# Altium schematic symbol library ULN.SchLib: 2 symbols
Pins are listed as number, name and electrical type; pins without a type are passive.

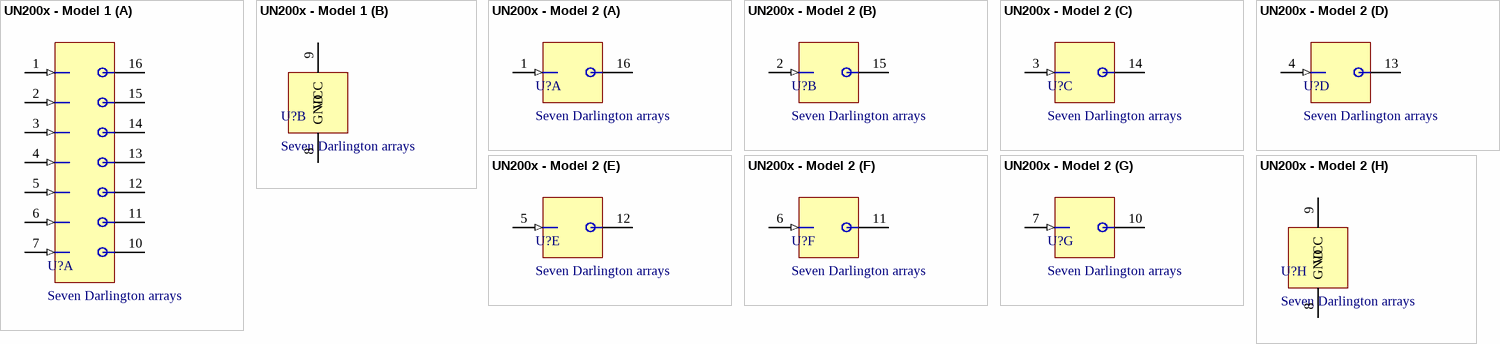
[diagram p0: symbols UN200x - Model 1 to UN200x - Model 2]

## UN200x - Model 1
designator U?, comment Seven Darlington arrays
footprint PDIP16
part A pins: 1 (in), 2 (in), 3 (in), 4 (in), 5 (in), 6 (in), 7 (in), 10 (oc), 11 (oc), 12 (oc), 13 (oc), 14 (oc), 15 (oc), 16 (oc)
part B pins: 8 GND (power), 9 VCC (power)

## UN200x - Model 2
designator U?, comment Seven Darlington arrays
footprint PDIP16
part A pins: 1 (in), 16 (oc)
part B pins: 2 (in), 15 (oc)
part C pins: 3 (in), 14 (oc)
part D pins: 4 (in), 13 (oc)
part E pins: 5 (in), 12 (oc)
part F pins: 6 (in), 11 (oc)
part G pins: 7 (in), 10 (oc)
part H pins: 8 GND (power), 9 VCC (power)